# Altium schematic symbol library SMD-RES-1K-5%-1_16W(0402).SchLib: 1 symbol
Pins are listed as number, name and electrical type; pins without a type are passive.

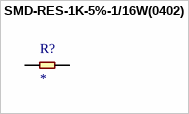
[diagram p0: symbol SMD-RES-1K-5%-1/16W(0402)]

## SMD-RES-1K-5%-1/16W(0402)
designator R?
1 kOhms Â±5% 0.063W, 1/16W Chip Resistor 0402 (1005 Metric) Moisture Resistant Thick Film; MP: RC0402JR-071KL; MF: Yageo; Check_prices: https://www.snapeda.com/parts/RC0402JR-071KL/Yageo/view-part/?ref=eda; Value: *; Purchase-URL: https://pricing.snapeda.com/search/part/RC0402JR-071KL/?ref=eda; SnapEDA_Link: https://www.snapeda.com/parts/RC0402JR-071KL/Yageo/view-part/?ref=snap; Package: 0402 Yageo; Digi-Key_Part_Number: 311-1.0KJRTR-ND
footprint R0402
pins: 1, 2